# EAGLE library part SOUNDCASTEL (library castels)
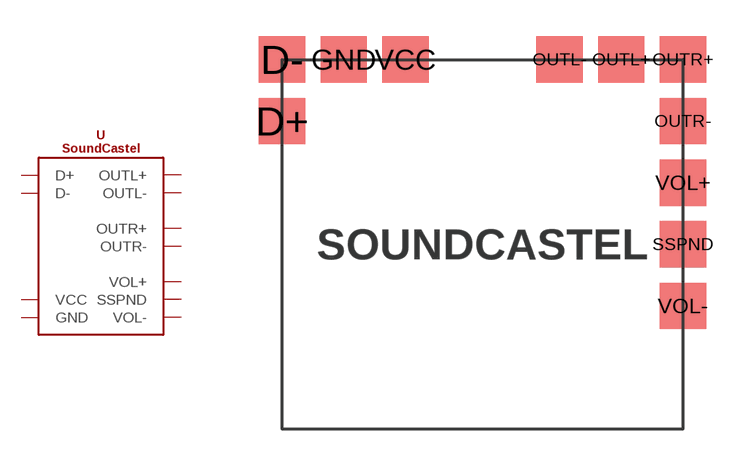
[diagram p1: symbol with the pads of SOUNDCASTEL; footprint SOUNDCASTEL]

Designator prefix -

## SOUNDCASTEL  [SOUNDCASTEL]
D+  D+
D-  D-
GND  GND
OUTL+  OUTL+
OUTL-  OUTL-
OUTR+  OUTR+
OUTR-  OUTR-
SSPND  SSPND
VCC  VCC
VOL+  VOL+
VOL-  VOL-

## Footprint SOUNDCASTEL (pad centres in mm)
smd 1.905 x 1.905: D+ -8.255,5.08; D- -8.255,7.62; GND -5.715,7.62; OUTL+ 5.715,7.62; OUTL- 3.175,7.62; OUTR+ 8.255,7.62; OUTR- 8.255,5.08; SSPND 8.255,0; VCC -3.175,7.62; VOL+ 8.255,2.54; VOL- 8.255,-2.54